# Altium integrated library TI Power Management DC-DC Controller (External Switch).IntLib: 349 symbols (part 20 of 28)
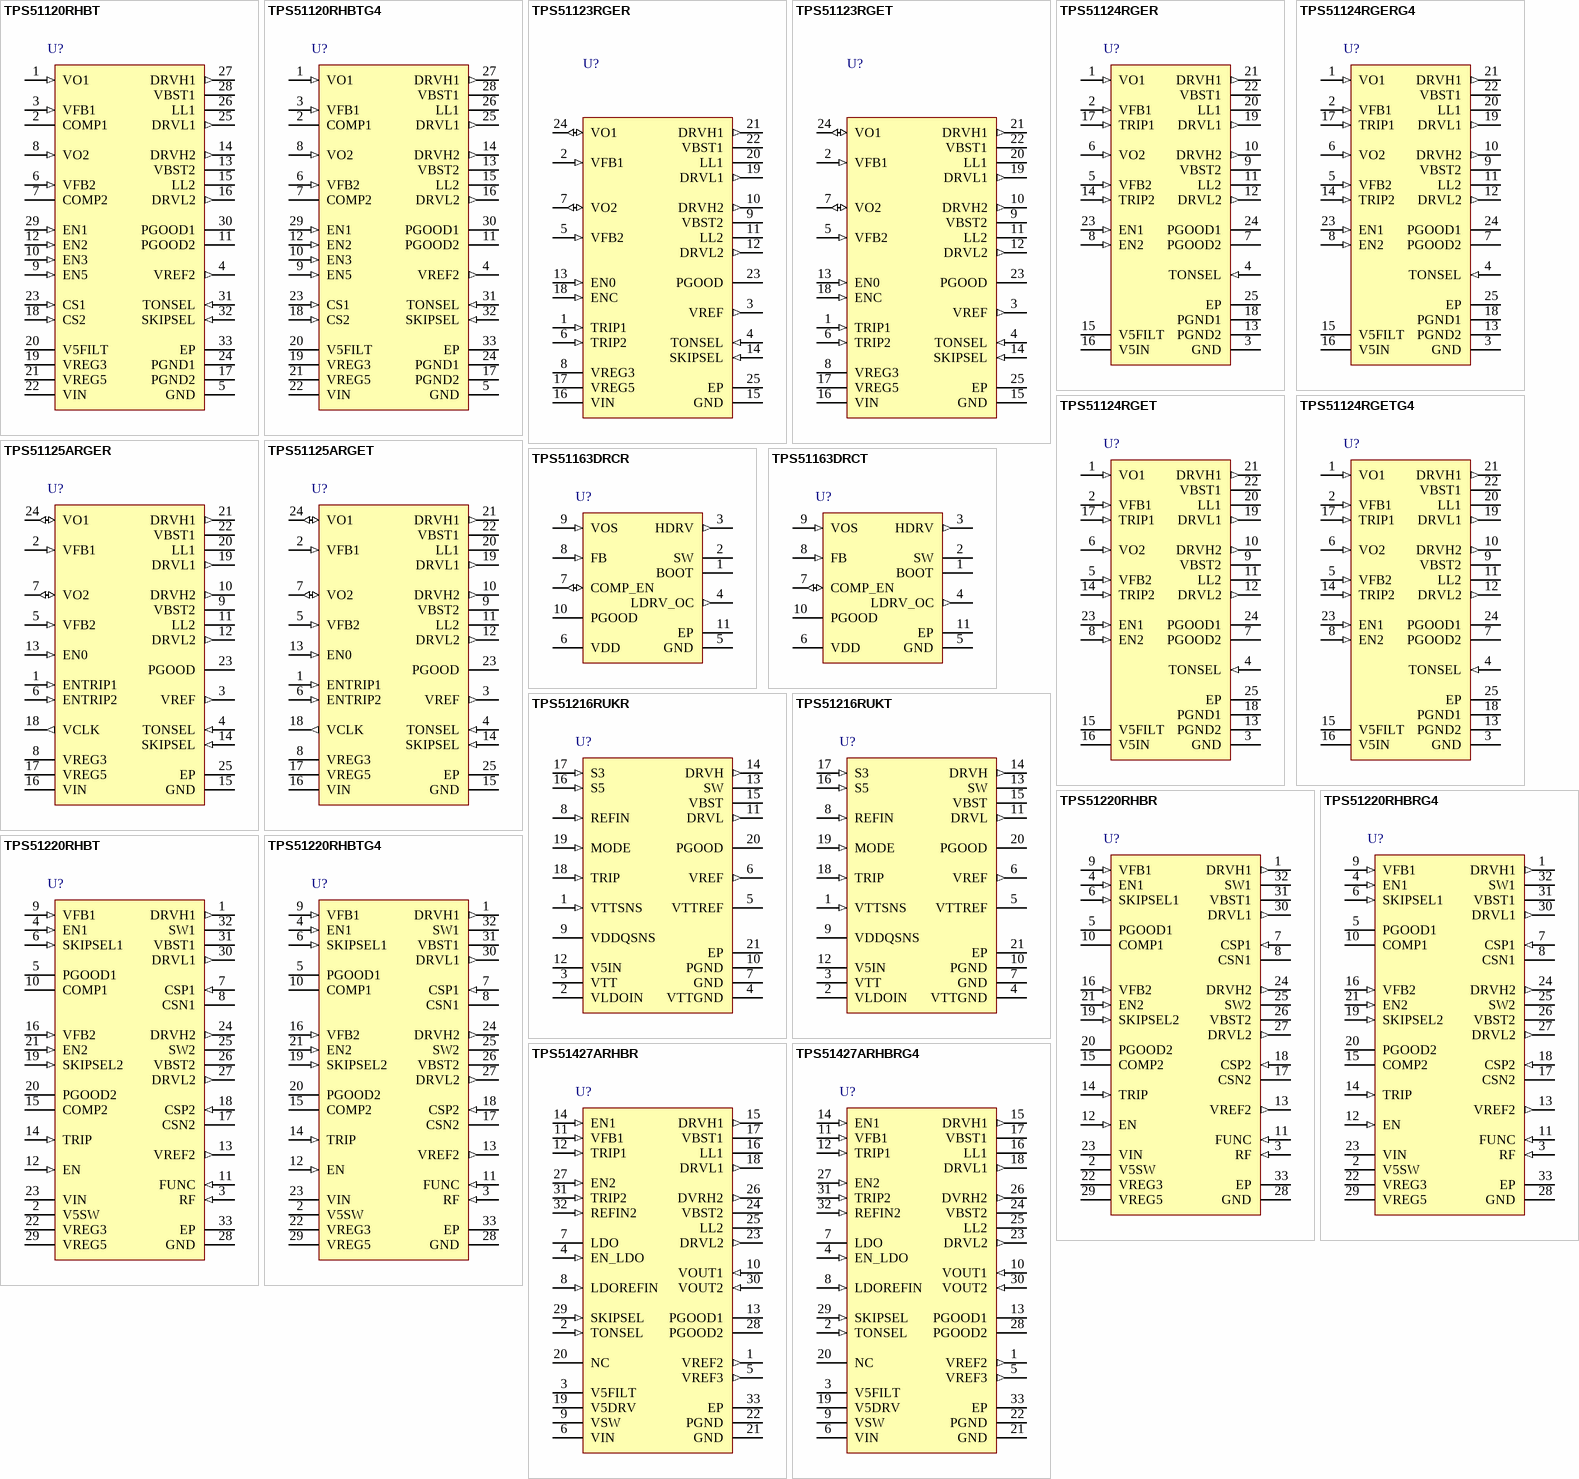
[diagram p33: symbols TPS51120RHBT to TPS51427ARHBRG4]

## TPS51163DRCT
designator U?
4.5 to 13.2 V Synchronous Buck Controller with High Current Gate Driver, 600 kHz, 69 % Duty Cycle, 4.5 to 13.2 V, -40 to 85 degC, 10-pin SON (DRC), Green (RoHS & no Sb/Br); Manufacturer: Texas Instruments; PartNumber: TPS51163DRCT; Duty Cycle(Max)(%): 69; Regulated Outputs(#): 1; SubFamily: Step-Down Controller; Switching Frequency(Max)(kHz): 600; Synchronous Rectification: TRUE; Vin(Max)(V): 13.2; Vin(Min)(V): 4.5; DatasheetVersion: SLUS864; PackageVersion: revL, Sep-2011; PackageReference: DRC10-2400X1650TP; PackageDescription: 10-Pin Plastic Small Outline No-Lead, 3 x 3 x 1 mm Body, 0.5 mm Pitch, Exposed Pad; Supplier 1: Digi-Key; Supplier Part Number 1: 296-24537-2-ND; Supplier 2: Digi-Key; Supplier Part Number 2: 296-24537-1-ND; Supplier 3: Digi-Key; Supplier Part Number 3: 296-24537-6-ND; Supplier 4: Farnell; Supplier Part Number 4: 1735583; Supplier 5: Newark; Supplier Part Number 5: 10R6152; Supplier 6: Mouser; Supplier Part Number 6: 595-TPS51163DRCT; Eco-Plan: Green (RoHS & no Sb/Br); Topology: Buck; Mounting Technology: Surface Mount; ComponentLink1Description: Datasheet; ComponentLink1URL: http://www.ti.com/general/docs/lit/getliterature.tsp?genericPartNumber=TPS51163&fileType=pdf; ComponentLink2Description: Package Specification; ComponentLink2URL: http://www.ti.com/litv/pdf/mpds117k
footprint DRC10-2400X1650TP (SON, 10-Leads, Body 3x3mm, Pitch 0.5mm, Thermal Pad 2.4x1.65mm, TI Recommended)
pins: 1 BOOT (power) "Gate drive voltage for the high-side N-channel MOSFET. Typically, a 100 nF capacitor must be connected between this pin and SW. Also, a diode from VDD to BOOT should be externally provided.", 2 SW (power) "Sense line for the adaptive anti-cross conduction circuitry. Serves as common connection for the flying high-side FET driver.", 3 HDRV (out) "Gate drive output for the high-side N-channel MOSFET.", 4 LDRV_OC (out) "Gate drive output for the low-side or rectifier MOSFET. The set point is read during start up calibration with the 10 uA current source present.", 5 GND (power) "Common reference for the device", 6 VDD (power) "Power input to the controller, 4.5 V to 13.2 V.", 7 COMP_EN (io) "Output of the error amplifier and the shutdown pin. Pulling the voltage on this pin lower than 800 mV shuts the controller down.", 8 FB (in) "Inverting input to the error amplifier. In normal operation, the voltage on this pin is equal to the internal reference voltage of 800mV.", 9 VOS (in) "Input to set undervoltage and overvoltage protections. Undervoltage protection occurs when VOS voltage is lower than 600mV. The controller shuts down with both MOSFETs latched off. Overvoltage protection occurs when VOS (See Datasheet)", 10 PGOOD (oc) "Open drain power good output. An external pull-up resistor is required.", 11 EP (power)

## TPS51216RUKR
designator U?
DDR2, DDR3 and DDR3L Memory Power Solution Synchronous Buck Controller, 2 A LDO, Buffered Reference, 84 % Duty Cycle, 3 to 28 V, -40 to 85 degC, 20-pin WQFN (RUK), Green (RoHS & no Sb/Br); Manufacturer: Texas Instruments; PartNumber: TPS51216RUKR; Duty Cycle(Max)(%): 84; Iout(Max)(A): 20; Regulated Outputs(#): 1; SubFamily: Multiple-Output Switching Controller; Switching Frequency(Max)(kHz): 400; Topology: Buck , D-CAP Mode; Vin(Max)(V): 28; Vin(Min)(V): 3; Vout(Max)(V): 1.8; Vout(Min)(V): 0.7; DatasheetVersion: SLUSAB9; PackageVersion: revC, Jan-2012; PackageReference: RUK20-1700X1700TP; PackageDescription: 20-Pin Plastic Quad Flatpack No-Lead, 3 x 3 mm Body, 0.4 mm Pitch, 1.8 x 1.8 mm Exposed Pad; Supplier 1: Digi-Key; Supplier Part Number 1: TPS51216RUKR-ND; Supplier 2: Mouser; Supplier Part Number 2: 595-TPS51216RUKR; Eco-Plan: Green (RoHS & no Sb/Br); Mounting Technology: Surface Mount; Code_JEDEC: MO-220; ComponentLink1Description: Datasheet; ComponentLink1URL: http://www.ti.com/general/docs/lit/getliterature.tsp?genericPartNumber=TPS51216&fileType=pdf; ComponentLink2Description: Package Specification; ComponentLink2URL: http://www.ti.com/litv/pdf/mpqf220b
footprint RUK20-1700X1700TP (QFN, 20-Leads, Body 3x3mm, Pitch 0.4mm, Thermal Pad 1.8x1.8mm, TI Recommended)
pins: 1 VTTSNS (in) "VTT output voltage feedback.", 2 VLDOIN (power) "Power supply input for VTT LDO. Connect VDDQ in typical application.", 3 VTT (power) "VTT 2-A LDO output. Need to connect 10uF or larger capacitance for stability.", 4 VTTGND (power) "Power ground for VTT LDO.", 5 VTTREF (hiz) "Buffered VTT reference output. Need to connect 0.22uF or larger capacitance for stability.", 6 VREF (out) "1.8-V reference output.", 7 GND (power) "Signal ground.", 8 REFIN (in) "Reference input for VDDQ. Connect to the midpoint of a resistor divider from VREF to GND. Add a capacitor for stable operation.", 9 VDDQSNS "VDDQ output voltage feedback. Reference input for VTTREF. Also serves as power supply for VTTREF.", 10 PGND (power) "Gate driver power ground. RDS(on) current sensing input(+).", 11 DRVL (out) "Low-side MOSFET gate driver output.", 12 V5IN (power) "5-V power supply input for internal circuits and MOSFET gate drivers.", 13 SW (power) "High-side MOSFET gate driver return. RDS(on) current sensing input(-).", 14 DRVH (out) "High-side MOSFET gate driver output.", 15 VBST (power) "High-side MOSFET gate driver bootstrap voltage input. Connect a capacitor from the VBST pin to the SW pin.", 16 S5 (in) "S5 signal input.", 17 S3 (in) "S3 signal input.", 18 TRIP (in) "Connect resistor to GND to set OCL at VTRIP/8. Output 10-uA current at room temperature, TC = 4700 ppm/degreesC.", 19 MODE (in) "Connect resistor to GND to configure switching frequency and discharge mode.", 20 PGOOD (oc) "Powergood signal open drain output. PGOOD goes high when VDDQ output voltage is within the target range.", 21 EP (power) "Connect to GND"

## TPS51216RUKT
designator U?
DDR2, DDR3 and DDR3L Memory Power Solution Synchronous Buck Controller, 2 A LDO, Buffered Reference, 84 % Duty Cycle, 3 to 28 V, -40 to 85 degC, 20-pin WQFN (RUK), Green (RoHS & no Sb/Br); Manufacturer: Texas Instruments; PartNumber: TPS51216RUKT; Duty Cycle(Max)(%): 84; Iout(Max)(A): 20; Regulated Outputs(#): 1; SubFamily: Multiple-Output Switching Controller; Switching Frequency(Max)(kHz): 400; Topology: Buck , D-CAP Mode; Vin(Max)(V): 28; Vin(Min)(V): 3; Vout(Max)(V): 1.8; Vout(Min)(V): 0.7; DatasheetVersion: SLUSAB9; PackageVersion: revC, Jan-2012; PackageReference: RUK20-1700X1700TP; PackageDescription: 20-Pin Plastic Quad Flatpack No-Lead, 3 x 3 mm Body, 0.4 mm Pitch, 1.8 x 1.8 mm Exposed Pad; Supplier 1: Digi-Key; Supplier Part Number 1: 296-28075-2-ND; Supplier 2: Digi-Key; Supplier Part Number 2: 296-28075-1-ND; Supplier 3: Digi-Key; Supplier Part Number 3: 296-28075-6-ND; Supplier 4: Farnell; Supplier Part Number 4: 2211339; Supplier 5: Newark; Supplier Part Number 5: 43W4737; Supplier 6: Newark; Supplier Part Number 6: 44W4445; Supplier 7: Newark; Supplier Part Number 7: 24T4805; Supplier 8: Mouser; Supplier Part Number 8: 595-TPS51216RUKT; Eco-Plan: Green (RoHS & no Sb/Br); Mounting Technology: Surface Mount; Code_JEDEC: MO-220; ComponentLink1Description: Datasheet; ComponentLink1URL: http://www.ti.com/general/docs/lit/getliterature.tsp?genericPartNumber=TPS51216&fileType=pdf; ComponentLink2Description: Package Specification; ComponentLink2URL: http://www.ti.com/litv/pdf/mpqf220b
footprint RUK20-1700X1700TP (QFN, 20-Leads, Body 3x3mm, Pitch 0.4mm, Thermal Pad 1.8x1.8mm, TI Recommended)
pins: 1 VTTSNS (in) "VTT output voltage feedback.", 2 VLDOIN (power) "Power supply input for VTT LDO. Connect VDDQ in typical application.", 3 VTT (power) "VTT 2-A LDO output. Need to connect 10uF or larger capacitance for stability.", 4 VTTGND (power) "Power ground for VTT LDO.", 5 VTTREF (hiz) "Buffered VTT reference output. Need to connect 0.22uF or larger capacitance for stability.", 6 VREF (out) "1.8-V reference output.", 7 GND (power) "Signal ground.", 8 REFIN (in) "Reference input for VDDQ. Connect to the midpoint of a resistor divider from VREF to GND. Add a capacitor for stable operation.", 9 VDDQSNS "VDDQ output voltage feedback. Reference input for VTTREF. Also serves as power supply for VTTREF.", 10 PGND (power) "Gate driver power ground. RDS(on) current sensing input(+).", 11 DRVL (out) "Low-side MOSFET gate driver output.", 12 V5IN (power) "5-V power supply input for internal circuits and MOSFET gate drivers.", 13 SW (power) "High-side MOSFET gate driver return. RDS(on) current sensing input(-).", 14 DRVH (out) "High-side MOSFET gate driver output.", 15 VBST (power) "High-side MOSFET gate driver bootstrap voltage input. Connect a capacitor from the VBST pin to the SW pin.", 16 S5 (in) "S5 signal input.", 17 S3 (in) "S3 signal input.", 18 TRIP (in) "Connect resistor to GND to set OCL at VTRIP/8. Output 10-uA current at room temperature, TC = 4700 ppm/degreesC.", 19 MODE (in) "Connect resistor to GND to configure switching frequency and discharge mode.", 20 PGOOD (oc) "Powergood signal open drain output. PGOOD goes high when VDDQ output voltage is within the target range.", 21 EP (power) "Connect to GND"

## TPS51220RHBR
designator U?
Fixed Frequency, 99 % Duty Cycle Peak Current Mode Notebook System Power Controller, 4.5 to 28 V, -40 to 85 degC, 32-pin QFN (RHB), Green (RoHS & no Sb/Br); Manufacturer: Texas Instruments; PartNumber: TPS51220RHBR; Duty Cycle(Max)(%): 99; Iout(Max)(A): 20; Regulated Outputs(#): 2; SubFamily: Multiple-Output Switching Controller; Switching Frequency(Max)(kHz): 1000; Synchronous Rectification: TRUE; Topology: Buck, D-CAP Mode"; Vin(Max)(V): 28; Vin(Min)(V): 4.5; Vout(Max)(V): 12; Vout(Min)(V): 1; DatasheetVersion: SLVS785C; PackageVersion: revD, Jun-2011; PackageReference: RHB32-3450X3450TP; PackageDescription: 32-Pin Plastic Quad Flat No-Lead, 5 x 5 mm Body, 0.5 mm Pitch, 3.45 x 3.45 mm Exposed Pad; Supplier 1: Digi-Key; Supplier Part Number 1: 296-22940-2-ND; Supplier 2: Digi-Key; Supplier Part Number 2: 296-22940-1-ND; Supplier 3: Digi-Key; Supplier Part Number 3: 296-22940-6-ND; Supplier 4: Newark; Supplier Part Number 4: 65M6330; Supplier 5: Mouser; Supplier Part Number 5: 595-TPS51220RHBR; Eco-Plan: Green (RoHS & no Sb/Br); Iout2(A): 20; Vout2(Max)(V): 12; Vout2(Min)(V): 1; Mounting Technology: Surface Mount; Code_JEDEC: MO-220; ComponentLink1Description: Datasheet; ComponentLink1URL: http://www.ti.com/general/docs/lit/getliterature.tsp?genericPartNumber=TPS51220&fileType=pdf; ComponentLink2Description: Package Specification; ComponentLink2URL: http://www.ti.com/litv/pdf/mpqf130c
footprint RHB32-3450X3450TP (QFN, 32-Leads, Body 5x5mm, Pitch 0.5mm, Thermal Pad 3.45x3.45mm, TI Recommended)
pins: 1 DRVH1 (out) "High-side MOSFET gate driver outputs. Source 1.7ohm, sink 1.0ohm, SW-node referenced floating driver. Drive voltage corresponds to VBST to SW voltage", 2 V5SW (power) "VREG5 switchover power supply input pin. When EN1 is high, PGOOD1 indicates GOOD and V5SW voltage is higher than 4.8 V, switch-over function will be enabled. (Note) When switch-over is enabled,  VREG5 output voltage will be (See Datasheet)", 3 RF (in) "Frequency setting pin. Connect a frequency setting resistor to (signal) GND. Connect to an external clock for synchronization.", 4 EN1 (in) "Channel 1 and channel 2 SMPS enable Pins. When turning on, apply greater than 0.55 V and less than 6 V or be floating. Connect to GND to disable. Adjustable soft-start capacitance to be attached here.", 5 PGOOD1 (oc) "Power Good window comparator outputs for channel 1 and channel 2. The applied voltage should be less than 6 V, and the recommended pull-up resistance value is from 100 k ohm to 1 Mohm.", 6 SKIPSEL1 (in) "Skip mode selection pin.   GND: Continuous conduction mode VREF2: Auto skip  VREG3: OOA auto skip, maximum 7 skips (suitable for fsw < 400 kHz)  VREG5: OOA auto skip, maximum 15 skips (suitable for equal to or greater than (See Datasheet)", 7 CSP1 (in) "Current sense comparator inputs (+). An RC network with high quality X5R or X7R ceramic capacitor should be used to extract voltage drop across DCR. 0.1 μF is a good value to start the design. See the current sensing scheme (See Datasheet)", 8 CSN1 "Current sense comparator inputs (-). See the current sensing scheme section. Used as power supply for the current sense circuit for 5 V or higher output voltage setting. Also, used for output discharge terminal.", 9 VFB1 (in) "SMPS voltage feedback inputs. Connect the feedback resistors divider, and should be referred to (signal) GND.", 10 COMP1 "Loop compensation pin for current mode (error amplifier output). Connect R (and C if required) from this pin to VREF2 for proper loop compensation with current mode operation. Ramp compensation adjustable pin for D-CAP mode, (See Datasheet)", 11 FUNC (in) "Control architecture and OVP function selection pin. GND: Current mode, OVP enable  VREF2: D-CAP mode, OVP disable  VREG3: D-CAP mode, OVP enable  VREG5: Current mode, OVP disable", 12 EN (in) "VREF2 and VREG5 Linear Regulators Enable Pin. When turning on, apply greater than 1.2V and less than 6V. Connect to GND to Disable.", 13 VREF2 (out) "2-V Reference Output. Bypass to (signal) GND by 0.22μF ceramic capacitor.", 14 TRIP (in) "Control architecture and OVP function selection pin. GND: Current mode, OVP enable  VREF2: V(OCL-ULV), Discharge off  VREG3: V(OCL-LV), Discharge off   VREG5: V(OCL-LV), Discharge on", 15 COMP2 "Loop compensation pin for current mode (error amplifier output). Connect R (and C if required) from this pin to VREF2 for proper loop compensation with current mode operation. Ramp compensation adjustable pin for D-CAP mode, (See Datasheet)", 16 VFB2 (in) "SMPS voltage feedback inputs. Connect the feedback resistors divider, and should be referred to (signal) GND.", 17 CSN2 "Current sense comparator inputs (-). See the current sensing scheme section. Used as power supply for the current sense circuit for 5 V or higher output voltage setting. Also, used for output discharge terminal.", 18 CSP2 (in) "Current sense comparator inputs (+). An RC network with high quality X5R or X7R ceramic capacitor should be used to extract voltage drop across DCR. 0.1 μF is a good value to start the design. See the current sensing scheme (See Datasheet)", 19 SKIPSEL2 (in) "Skip mode selection pin.   GND: Continuous conduction mode VREF2: Auto skip  VREG3: OOA auto skip, maximum 7 skips (suitable for fsw < 400 kHz)  VREG5: OOA auto skip, maximum 15 skips (suitable for equal to or greater than (See Datasheet)", 20 PGOOD2 (oc) "Power Good window comparator outputs for channel 1 and channel 2. The applied voltage should be less than 6 V, and the recommended pull-up resistance value is from 100 k ohm to 1 Mohm.", 21 EN2 (in) "Channel 1 and channel 2 SMPS enable Pins. When turning on, apply greater than 0.55 V and less than 6 V or be floating. Connect to GND to disable. Adjustable soft-start capacitance to be attached here.", 22 VREG3 (power) "Always alive 3.3-V, 10-mA low dropout linear regulator output. Bypass to (signal) GND with more than 1-μF ceramic capacitor. Runs from VIN supply or from VREG5 when it is switched over to V5SW input.", 23 VIN (power) "Supply input for 5-V and 3.3-V linear regulator. Typically connected to VBAT.", 24 DRVH2 (out) "High-side MOSFET gate driver outputs. Source 1.7ohm, sink 1.0ohm, SW-node referenced floating driver. Drive voltage corresponds to VBST to SW voltage", 25 SW2 (power) "High-side MOSFET gate driver returns.", 26 VBST2 (power) "Supply inputs for high-side NFET driver (boot strap Terminal). Connect a capacitor (0.1μF or greater is recommended) from this pin to respective SW terminal. Additional SB diode from VREG5 to this pin is an optional.", 27 DRVL2 (out) "Low-side MOSFET gate driver outputs. Source 1.3 ohm, sink 0.7 ohm, GND referenced driver.", 28 GND (power) "Ground.", 29 VREG5 (power) "5-V, 100-mA low-dropout linear regulator output. Bypass to (power) GND using a 10-μF ceramic capacitor Runs from VIN supply. Internally connected to VBST and DRVL. Shuts off with EN. Switches over to V5SW when 4.8 V or above (See Datasheet)", 30 DRVL1 (out) "Low-side MOSFET gate driver outputs. Source 1.3 ohm, sink 0.7 ohm, GND referenced driver", 31 VBST1 (power) "Supply inputs for high-side NFET driver (boot strap Terminal). Connect a capacitor (0.1μF or greater is recommended) from this pin to respective SW terminal. Additional SB diode from VREG5 to this pin is an optional.", 32 SW1 (power) "High-side MOSFET gate driver returns.", 33 EP (power) "Connect to the ground."

## TPS51220RHBRG4
designator U?
Fixed Frequency, 99% Duty Cycle Peak Current Mode Notebook System Power Controller, 4.5 to 28 V, -40 to 85 degC, 32-pin QFN (RHB), Green (RoHS & no Sb/Br); Manufacturer: Texas Instruments; PartNumber: TPS51220RHBRG4; Duty Cycle(Max)(%): 99; Iout(Max)(A): 20; Regulated Outputs(#): 2; SubFamily: Multiple-Output Switching Controller; Switching Frequency(Max)(kHz): 1000; Synchronous Rectification: TRUE; Topology: Buck, D-CAP Mode"; Vin(Max)(V): 28; Vin(Min)(V): 4.5; Vout(Max)(V): 12; Vout(Min)(V): 1; DatasheetVersion: SLVS785C; PackageVersion: revD, Jun-2011; PackageReference: RHB32-3450X3450TP; PackageDescription: 32-Pin Plastic Quad Flat No-Lead, 5 x 5 mm Body, 0.5 mm Pitch, 3.45 x 3.45 mm Exposed Pad; Supplier 1: Digi-Key; Supplier Part Number 1: TPS51220RHBRG4-ND; Supplier 2: Newark; Supplier Part Number 2: 95M0050; Supplier 3: Mouser; Supplier Part Number 3: 595-TPS51220RHBRG4; Eco-Plan: Green (RoHS & no Sb/Br); Iout2(A): 20; Vout2(Max)(V): 12; Vout2(Min)(V): 1; Mounting Technology: Surface Mount; Code_JEDEC: MO-220; ComponentLink1Description: Datasheet; ComponentLink1URL: http://www.ti.com/general/docs/lit/getliterature.tsp?genericPartNumber=TPS51220&fileType=pdf; ComponentLink2Description: Package Specification; ComponentLink2URL: http://www.ti.com/litv/pdf/mpqf130c
footprint RHB32-3450X3450TP (QFN, 32-Leads, Body 5x5mm, Pitch 0.5mm, Thermal Pad 3.45x3.45mm, TI Recommended)
pins: 1 DRVH1 (out) "High-side MOSFET gate driver outputs. Source 1.7ohm, sink 1.0ohm, SW-node referenced floating driver. Drive voltage corresponds to VBST to SW voltage", 2 V5SW (power) "VREG5 switchover power supply input pin. When EN1 is high, PGOOD1 indicates GOOD and V5SW voltage is higher than 4.8 V, switch-over function will be enabled. (Note) When switch-over is enabled,  VREG5 output voltage will be (See Datasheet)", 3 RF (in) "Frequency setting pin. Connect a frequency setting resistor to (signal) GND. Connect to an external clock for synchronization.", 4 EN1 (in) "Channel 1 and channel 2 SMPS enable Pins. When turning on, apply greater than 0.55 V and less than 6 V or be floating. Connect to GND to disable. Adjustable soft-start capacitance to be attached here.", 5 PGOOD1 (oc) "Power Good window comparator outputs for channel 1 and channel 2. The applied voltage should be less than 6 V, and the recommended pull-up resistance value is from 100 k ohm to 1 Mohm.", 6 SKIPSEL1 (in) "Skip mode selection pin.   GND: Continuous conduction mode VREF2: Auto skip  VREG3: OOA auto skip, maximum 7 skips (suitable for fsw < 400 kHz)  VREG5: OOA auto skip, maximum 15 skips (suitable for equal to or greater than (See Datasheet)", 7 CSP1 (in) "Current sense comparator inputs (+). An RC network with high quality X5R or X7R ceramic capacitor should be used to extract voltage drop across DCR. 0.1 μF is a good value to start the design. See the current sensing scheme (See Datasheet)", 8 CSN1 "Current sense comparator inputs (-). See the current sensing scheme section. Used as power supply for the current sense circuit for 5 V or higher output voltage setting. Also, used for output discharge terminal.", 9 VFB1 (in) "SMPS voltage feedback inputs. Connect the feedback resistors divider, and should be referred to (signal) GND.", 10 COMP1 "Loop compensation pin for current mode (error amplifier output). Connect R (and C if required) from this pin to VREF2 for proper loop compensation with current mode operation. Ramp compensation adjustable pin for D-CAP mode, (See Datasheet)", 11 FUNC (in) "Control architecture and OVP function selection pin. GND: Current mode, OVP enable  VREF2: D-CAP mode, OVP disable  VREG3: D-CAP mode, OVP enable  VREG5: Current mode, OVP disable", 12 EN (in) "VREF2 and VREG5 Linear Regulators Enable Pin. When turning on, apply greater than 1.2V and less than 6V. Connect to GND to Disable.", 13 VREF2 (out) "2-V Reference Output. Bypass to (signal) GND by 0.22μF ceramic capacitor.", 14 TRIP (in) "Control architecture and OVP function selection pin. GND: Current mode, OVP enable  VREF2: V(OCL-ULV), Discharge off  VREG3: V(OCL-LV), Discharge off   VREG5: V(OCL-LV), Discharge on", 15 COMP2 "Loop compensation pin for current mode (error amplifier output). Connect R (and C if required) from this pin to VREF2 for proper loop compensation with current mode operation. Ramp compensation adjustable pin for D-CAP mode, (See Datasheet)", 16 VFB2 (in) "SMPS voltage feedback inputs. Connect the feedback resistors divider, and should be referred to (signal) GND.", 17 CSN2 "Current sense comparator inputs (-). See the current sensing scheme section. Used as power supply for the current sense circuit for 5 V or higher output voltage setting. Also, used for output discharge terminal.", 18 CSP2 (in) "Current sense comparator inputs (+). An RC network with high quality X5R or X7R ceramic capacitor should be used to extract voltage drop across DCR. 0.1 μF is a good value to start the design. See the current sensing scheme (See Datasheet)", 19 SKIPSEL2 (in) "Skip mode selection pin.   GND: Continuous conduction mode VREF2: Auto skip  VREG3: OOA auto skip, maximum 7 skips (suitable for fsw < 400 kHz)  VREG5: OOA auto skip, maximum 15 skips (suitable for equal to or greater than (See Datasheet)", 20 PGOOD2 (oc) "Power Good window comparator outputs for channel 1 and channel 2. The applied voltage should be less than 6 V, and the recommended pull-up resistance value is from 100 k ohm to 1 Mohm.", 21 EN2 (in) "Channel 1 and channel 2 SMPS enable Pins. When turning on, apply greater than 0.55 V and less than 6 V or be floating. Connect to GND to disable. Adjustable soft-start capacitance to be attached here.", 22 VREG3 (power) "Always alive 3.3-V, 10-mA low dropout linear regulator output. Bypass to (signal) GND with more than 1-μF ceramic capacitor. Runs from VIN supply or from VREG5 when it is switched over to V5SW input.", 23 VIN (power) "Supply input for 5-V and 3.3-V linear regulator. Typically connected to VBAT.", 24 DRVH2 (out) "High-side MOSFET gate driver outputs. Source 1.7ohm, sink 1.0ohm, SW-node referenced floating driver. Drive voltage corresponds to VBST to SW voltage", 25 SW2 (power) "High-side MOSFET gate driver returns.", 26 VBST2 (power) "Supply inputs for high-side NFET driver (boot strap Terminal). Connect a capacitor (0.1μF or greater is recommended) from this pin to respective SW terminal. Additional SB diode from VREG5 to this pin is an optional.", 27 DRVL2 (out) "Low-side MOSFET gate driver outputs. Source 1.3 ohm, sink 0.7 ohm, GND referenced driver.", 28 GND (power) "Ground.", 29 VREG5 (power) "5-V, 100-mA low-dropout linear regulator output. Bypass to (power) GND using a 10-μF ceramic capacitor Runs from VIN supply. Internally connected to VBST and DRVL. Shuts off with EN. Switches over to V5SW when 4.8 V or above (See Datasheet)", 30 DRVL1 (out) "Low-side MOSFET gate driver outputs. Source 1.3 ohm, sink 0.7 ohm, GND referenced driver", 31 VBST1 (power) "Supply inputs for high-side NFET driver (boot strap Terminal). Connect a capacitor (0.1μF or greater is recommended) from this pin to respective SW terminal. Additional SB diode from VREG5 to this pin is an optional.", 32 SW1 (power) "High-side MOSFET gate driver returns.", 33 EP (power) "Connect to the ground."

## TPS51220RHBT
designator U?
Fixed Frequency, 99% Duty Cycle Peak Current Mode Notebook System Power Controller, 4.5 to 28 V, -40 to 85 degC, 32-pin QFN (RHB), Green (RoHS & no Sb/Br); Manufacturer: Texas Instruments; PartNumber: TPS51220RHBT; Duty Cycle(Max)(%): 99; Iout(Max)(A): 20; Regulated Outputs(#): 2; SubFamily: Multiple-Output Switching Controller; Switching Frequency(Max)(kHz): 1000; Synchronous Rectification: TRUE; Topology: Buck, D-CAP Mode"; Vin(Max)(V): 28; Vin(Min)(V): 4.5; Vout(Max)(V): 12; Vout(Min)(V): 1; DatasheetVersion: SLVS785C; PackageVersion: revD, Jun-2011; PackageReference: RHB32-3450X3450TP; PackageDescription: 32-Pin Plastic Quad Flat No-Lead, 5 x 5 mm Body, 0.5 mm Pitch, 3.45 x 3.45 mm Exposed Pad; Supplier 1: Digi-Key; Supplier Part Number 1: TPS51220RHBT-ND; Supplier 2: Newark; Supplier Part Number 2: 65M6331; Supplier 3: Mouser; Supplier Part Number 3: 595-TPS51220RHBT; Eco-Plan: Green (RoHS & no Sb/Br); Iout2(A): 20; Vout2(Max)(V): 12; Vout2(Min)(V): 1; Mounting Technology: Surface Mount; Code_JEDEC: MO-220; ComponentLink1Description: Datasheet; ComponentLink1URL: http://www.ti.com/general/docs/lit/getliterature.tsp?genericPartNumber=TPS51220&fileType=pdf; ComponentLink2Description: Package Specification; ComponentLink2URL: http://www.ti.com/litv/pdf/mpqf130c
footprint RHB32-3450X3450TP (QFN, 32-Leads, Body 5x5mm, Pitch 0.5mm, Thermal Pad 3.45x3.45mm, TI Recommended)
pins: 1 DRVH1 (out) "High-side MOSFET gate driver outputs. Source 1.7ohm, sink 1.0ohm, SW-node referenced floating driver. Drive voltage corresponds to VBST to SW voltage", 2 V5SW (power) "VREG5 switchover power supply input pin. When EN1 is high, PGOOD1 indicates GOOD and V5SW voltage is higher than 4.8 V, switch-over function will be enabled. (Note) When switch-over is enabled,  VREG5 output voltage will be (See Datasheet)", 3 RF (in) "Frequency setting pin. Connect a frequency setting resistor to (signal) GND. Connect to an external clock for synchronization.", 4 EN1 (in) "Channel 1 and channel 2 SMPS enable Pins. When turning on, apply greater than 0.55 V and less than 6 V or be floating. Connect to GND to disable. Adjustable soft-start capacitance to be attached here.", 5 PGOOD1 (oc) "Power Good window comparator outputs for channel 1 and channel 2. The applied voltage should be less than 6 V, and the recommended pull-up resistance value is from 100 k ohm to 1 Mohm.", 6 SKIPSEL1 (in) "Skip mode selection pin.   GND: Continuous conduction mode VREF2: Auto skip  VREG3: OOA auto skip, maximum 7 skips (suitable for fsw < 400 kHz)  VREG5: OOA auto skip, maximum 15 skips (suitable for equal to or greater than (See Datasheet)", 7 CSP1 (in) "Current sense comparator inputs (+). An RC network with high quality X5R or X7R ceramic capacitor should be used to extract voltage drop across DCR. 0.1 μF is a good value to start the design. See the current sensing scheme (See Datasheet)", 8 CSN1 "Current sense comparator inputs (-). See the current sensing scheme section. Used as power supply for the current sense circuit for 5 V or higher output voltage setting. Also, used for output discharge terminal.", 9 VFB1 (in) "SMPS voltage feedback inputs. Connect the feedback resistors divider, and should be referred to (signal) GND.", 10 COMP1 "Loop compensation pin for current mode (error amplifier output). Connect R (and C if required) from this pin to VREF2 for proper loop compensation with current mode operation. Ramp compensation adjustable pin for D-CAP mode, (See Datasheet)", 11 FUNC (in) "Control architecture and OVP function selection pin. GND: Current mode, OVP enable  VREF2: D-CAP mode, OVP disable  VREG3: D-CAP mode, OVP enable  VREG5: Current mode, OVP disable", 12 EN (in) "VREF2 and VREG5 Linear Regulators Enable Pin. When turning on, apply greater than 1.2V and less than 6V. Connect to GND to Disable.", 13 VREF2 (out) "2-V Reference Output. Bypass to (signal) GND by 0.22μF ceramic capacitor.", 14 TRIP (in) "Control architecture and OVP function selection pin. GND: Current mode, OVP enable  VREF2: V(OCL-ULV), Discharge off  VREG3: V(OCL-LV), Discharge off   VREG5: V(OCL-LV), Discharge on", 15 COMP2 "Loop compensation pin for current mode (error amplifier output). Connect R (and C if required) from this pin to VREF2 for proper loop compensation with current mode operation. Ramp compensation adjustable pin for D-CAP mode, (See Datasheet)", 16 VFB2 (in) "SMPS voltage feedback inputs. Connect the feedback resistors divider, and should be referred to (signal) GND.", 17 CSN2 "Current sense comparator inputs (-). See the current sensing scheme section. Used as power supply for the current sense circuit for 5 V or higher output voltage setting. Also, used for output discharge terminal.", 18 CSP2 (in) "Current sense comparator inputs (+). An RC network with high quality X5R or X7R ceramic capacitor should be used to extract voltage drop across DCR. 0.1 μF is a good value to start the design. See the current sensing scheme (See Datasheet)", 19 SKIPSEL2 (in) "Skip mode selection pin.   GND: Continuous conduction mode VREF2: Auto skip  VREG3: OOA auto skip, maximum 7 skips (suitable for fsw < 400 kHz)  VREG5: OOA auto skip, maximum 15 skips (suitable for equal to or greater than (See Datasheet)", 20 PGOOD2 (oc) "Power Good window comparator outputs for channel 1 and channel 2. The applied voltage should be less than 6 V, and the recommended pull-up resistance value is from 100 k ohm to 1 Mohm.", 21 EN2 (in) "Channel 1 and channel 2 SMPS enable Pins. When turning on, apply greater than 0.55 V and less than 6 V or be floating. Connect to GND to disable. Adjustable soft-start capacitance to be attached here.", 22 VREG3 (power) "Always alive 3.3-V, 10-mA low dropout linear regulator output. Bypass to (signal) GND with more than 1-μF ceramic capacitor. Runs from VIN supply or from VREG5 when it is switched over to V5SW input.", 23 VIN (power) "Supply input for 5-V and 3.3-V linear regulator. Typically connected to VBAT.", 24 DRVH2 (out) "High-side MOSFET gate driver outputs. Source 1.7ohm, sink 1.0ohm, SW-node referenced floating driver. Drive voltage corresponds to VBST to SW voltage", 25 SW2 (power) "High-side MOSFET gate driver returns.", 26 VBST2 (power) "Supply inputs for high-side NFET driver (boot strap Terminal). Connect a capacitor (0.1μF or greater is recommended) from this pin to respective SW terminal. Additional SB diode from VREG5 to this pin is an optional.", 27 DRVL2 (out) "Low-side MOSFET gate driver outputs. Source 1.3 ohm, sink 0.7 ohm, GND referenced driver.", 28 GND (power) "Ground.", 29 VREG5 (power) "5-V, 100-mA low-dropout linear regulator output. Bypass to (power) GND using a 10-μF ceramic capacitor Runs from VIN supply. Internally connected to VBST and DRVL. Shuts off with EN. Switches over to V5SW when 4.8 V or above (See Datasheet)", 30 DRVL1 (out) "Low-side MOSFET gate driver outputs. Source 1.3 ohm, sink 0.7 ohm, GND referenced driver", 31 VBST1 (power) "Supply inputs for high-side NFET driver (boot strap Terminal). Connect a capacitor (0.1μF or greater is recommended) from this pin to respective SW terminal. Additional SB diode from VREG5 to this pin is an optional.", 32 SW1 (power) "High-side MOSFET gate driver returns.", 33 EP (power) "Connect to the ground."

## TPS51220RHBTG4
designator U?
Fixed Frequency, 99% Duty Cycle Peak Current Mode Notebook System Power Controller, 4.5 to 28 V, -40 to 85 degC, 32-pin QFN (RHB), Green (RoHS & no Sb/Br); Manufacturer: Texas Instruments; PartNumber: TPS51220RHBTG4; Duty Cycle(Max)(%): 99; Iout(Max)(A): 20; Regulated Outputs(#): 2; SubFamily: Multiple-Output Switching Controller; Switching Frequency(Max)(kHz): 1000; Synchronous Rectification: TRUE; Topology: Buck, D-CAP Mode"; Vin(Max)(V): 28; Vin(Min)(V): 4.5; Vout(Max)(V): 12; Vout(Min)(V): 1; DatasheetVersion: SLVS785C; PackageVersion: revD, Jun-2011; PackageReference: RHB32-3450X3450TP; PackageDescription: 32-Pin Plastic Quad Flat No-Lead, 5 x 5 mm Body, 0.5 mm Pitch, 3.45 x 3.45 mm Exposed Pad; Supplier 1: Digi-Key; Supplier Part Number 1: TPS51220RHBTG4-ND; Supplier 2: Mouser; Supplier Part Number 2: 595-TPS51220RHBTG4; Eco-Plan: Green (RoHS & no Sb/Br); Iout2(A): 20; Vout2(Max)(V): 12; Vout2(Min)(V): 1; Mounting Technology: Surface Mount; Code_JEDEC: MO-220; ComponentLink1Description: Datasheet; ComponentLink1URL: http://www.ti.com/general/docs/lit/getliterature.tsp?genericPartNumber=TPS51220&fileType=pdf; ComponentLink2Description: Package Specification; ComponentLink2URL: http://www.ti.com/litv/pdf/mpqf130c
footprint RHB32-3450X3450TP (QFN, 32-Leads, Body 5x5mm, Pitch 0.5mm, Thermal Pad 3.45x3.45mm, TI Recommended)
pins: 1 DRVH1 (out) "High-side MOSFET gate driver outputs. Source 1.7ohm, sink 1.0ohm, SW-node referenced floating driver. Drive voltage corresponds to VBST to SW voltage", 2 V5SW (power) "VREG5 switchover power supply input pin. When EN1 is high, PGOOD1 indicates GOOD and V5SW voltage is higher than 4.8 V, switch-over function will be enabled. (Note) When switch-over is enabled,  VREG5 output voltage will be (See Datasheet)", 3 RF (in) "Frequency setting pin. Connect a frequency setting resistor to (signal) GND. Connect to an external clock for synchronization.", 4 EN1 (in) "Channel 1 and channel 2 SMPS enable Pins. When turning on, apply greater than 0.55 V and less than 6 V or be floating. Connect to GND to disable. Adjustable soft-start capacitance to be attached here.", 5 PGOOD1 (oc) "Power Good window comparator outputs for channel 1 and channel 2. The applied voltage should be less than 6 V, and the recommended pull-up resistance value is from 100 k ohm to 1 Mohm.", 6 SKIPSEL1 (in) "Skip mode selection pin.   GND: Continuous conduction mode VREF2: Auto skip  VREG3: OOA auto skip, maximum 7 skips (suitable for fsw < 400 kHz)  VREG5: OOA auto skip, maximum 15 skips (suitable for equal to or greater than (See Datasheet)", 7 CSP1 (in) "Current sense comparator inputs (+). An RC network with high quality X5R or X7R ceramic capacitor should be used to extract voltage drop across DCR. 0.1 μF is a good value to start the design. See the current sensing scheme (See Datasheet)", 8 CSN1 "Current sense comparator inputs (-). See the current sensing scheme section. Used as power supply for the current sense circuit for 5 V or higher output voltage setting. Also, used for output discharge terminal.", 9 VFB1 (in) "SMPS voltage feedback inputs. Connect the feedback resistors divider, and should be referred to (signal) GND.", 10 COMP1 "Loop compensation pin for current mode (error amplifier output). Connect R (and C if required) from this pin to VREF2 for proper loop compensation with current mode operation. Ramp compensation adjustable pin for D-CAP mode, (See Datasheet)", 11 FUNC (in) "Control architecture and OVP function selection pin. GND: Current mode, OVP enable  VREF2: D-CAP mode, OVP disable  VREG3: D-CAP mode, OVP enable  VREG5: Current mode, OVP disable", 12 EN (in) "VREF2 and VREG5 Linear Regulators Enable Pin. When turning on, apply greater than 1.2V and less than 6V. Connect to GND to Disable.", 13 VREF2 (out) "2-V Reference Output. Bypass to (signal) GND by 0.22μF ceramic capacitor.", 14 TRIP (in) "Control architecture and OVP function selection pin. GND: Current mode, OVP enable  VREF2: V(OCL-ULV), Discharge off  VREG3: V(OCL-LV), Discharge off   VREG5: V(OCL-LV), Discharge on", 15 COMP2 "Loop compensation pin for current mode (error amplifier output). Connect R (and C if required) from this pin to VREF2 for proper loop compensation with current mode operation. Ramp compensation adjustable pin for D-CAP mode, (See Datasheet)", 16 VFB2 (in) "SMPS voltage feedback inputs. Connect the feedback resistors divider, and should be referred to (signal) GND.", 17 CSN2 "Current sense comparator inputs (-). See the current sensing scheme section. Used as power supply for the current sense circuit for 5 V or higher output voltage setting. Also, used for output discharge terminal.", 18 CSP2 (in) "Current sense comparator inputs (+). An RC network with high quality X5R or X7R ceramic capacitor should be used to extract voltage drop across DCR. 0.1 μF is a good value to start the design. See the current sensing scheme (See Datasheet)", 19 SKIPSEL2 (in) "Skip mode selection pin.   GND: Continuous conduction mode VREF2: Auto skip  VREG3: OOA auto skip, maximum 7 skips (suitable for fsw < 400 kHz)  VREG5: OOA auto skip, maximum 15 skips (suitable for equal to or greater than (See Datasheet)", 20 PGOOD2 (oc) "Power Good window comparator outputs for channel 1 and channel 2. The applied voltage should be less than 6 V, and the recommended pull-up resistance value is from 100 k ohm to 1 Mohm.", 21 EN2 (in) "Channel 1 and channel 2 SMPS enable Pins. When turning on, apply greater than 0.55 V and less than 6 V or be floating. Connect to GND to disable. Adjustable soft-start capacitance to be attached here.", 22 VREG3 (power) "Always alive 3.3-V, 10-mA low dropout linear regulator output. Bypass to (signal) GND with more than 1-μF ceramic capacitor. Runs from VIN supply or from VREG5 when it is switched over to V5SW input.", 23 VIN (power) "Supply input for 5-V and 3.3-V linear regulator. Typically connected to VBAT.", 24 DRVH2 (out) "High-side MOSFET gate driver outputs. Source 1.7ohm, sink 1.0ohm, SW-node referenced floating driver. Drive voltage corresponds to VBST to SW voltage", 25 SW2 (power) "High-side MOSFET gate driver returns.", 26 VBST2 (power) "Supply inputs for high-side NFET driver (boot strap Terminal). Connect a capacitor (0.1μF or greater is recommended) from this pin to respective SW terminal. Additional SB diode from VREG5 to this pin is an optional.", 27 DRVL2 (out) "Low-side MOSFET gate driver outputs. Source 1.3 ohm, sink 0.7 ohm, GND referenced driver.", 28 GND (power) "Ground.", 29 VREG5 (power) "5-V, 100-mA low-dropout linear regulator output. Bypass to (power) GND using a 10-μF ceramic capacitor Runs from VIN supply. Internally connected to VBST and DRVL. Shuts off with EN. Switches over to V5SW when 4.8 V or above (See Datasheet)", 30 DRVL1 (out) "Low-side MOSFET gate driver outputs. Source 1.3 ohm, sink 0.7 ohm, GND referenced driver", 31 VBST1 (power) "Supply inputs for high-side NFET driver (boot strap Terminal). Connect a capacitor (0.1μF or greater is recommended) from this pin to respective SW terminal. Additional SB diode from VREG5 to this pin is an optional.", 32 SW1 (power) "High-side MOSFET gate driver returns.", 33 EP (power) "Connect to the ground."

## TPS51427ARHBR
designator U?
Dual D-CAP™Mode Synchronous Step Down Controller for Notebook Power with OOB Function Disabled, 90 % Duty Cycle, 5.5 to 28 V, -40 to 85 degC, 32-pin QFN (RHB), Green (RoHS & no Sb/Br); Manufacturer: Texas Instruments; PartNumber: TPS51427ARHBR; Duty Cycle(Max)(%): 90; Iout(Max)(A): 20; Regulated Outputs(#): 2; SubFamily: Multiple-Output Switching Controller; Switching Frequency(Max)(kHz): 500; Synchronous Rectification: TRUE; Topology: Buck, D-CAP Mode"; Vin(Max)(V): 28; Vin(Min)(V): 5.5; Vout(Max)(V): 5.9; Vout(Min)(V): 0.7; Vout2(Max)(V): 2.5; Vout2(Min)(V): 0.5; DatasheetVersion: SLUS843B; PackageVersion: revD, Jun-2011; PackageReference: RHB32-3450X3450TP; PackageDescription: 32-Pin Plastic Quad Flat No-Lead, 5 x 5 mm Body, 0.5 mm Pitch, 3.45 x 3.45 mm Exposed Pad; Supplier 1: Digi-Key; Supplier Part Number 1: TPS51427ARHBR-ND; Supplier 2: Newark; Supplier Part Number 2: 03P5194; Supplier 3: Mouser; Supplier Part Number 3: 595-TPS51427ARHBR; Eco-Plan: Green (RoHS & no Sb/Br); Iout2(A): 20; Mounting Technology: Surface Mount; Code_JEDEC: MO-220; ComponentLink1Description: Datasheet; ComponentLink1URL: http://www.ti.com/general/docs/lit/getliterature.tsp?genericPartNumber=TPS51427A&fileType=pdf; ComponentLink2Description: Package Specification; ComponentLink2URL: http://www.ti.com/litv/pdf/mpqf130c
footprint RHB32-3450X3450TP (QFN, 32-Leads, Body 5x5mm, Pitch 0.5mm, Thermal Pad 3.45x3.45mm, TI Recommended)
pins: 1 VREF2 (out) "2-V reference output. Bypass to GND with a 0.1-mF capacitor. VREF2 can source up to 50 mA for external loads.", 2 TONSEL (in) "Frequency select input. Connect to GND for 400-kHz/500-kHz operation. Connect to VREF2 (or leave open) for 400-kHz/300-kHz operation. Connect to V5FILT for 200-kHz/300-kHz operation (5-V/3.3-V SMPS switching frequencies, (See Datasheet)", 3 V5FILT (power) "5-V analog supply input", 4 EN_LDO (in) "LDO Enable Input. The LDO is enabled if EN_LDO is within logic high level and disabled if EN_LDO is less than the logic low level.", 5 VREF3 (out) "3.3-V reference output. VREF3 can source up to 10 mA for external loads. Bypass to GND with a 1-mF capacitor.", 6 VIN (power) "Power supply input .VIN supplies power to the linear regulators. The linear regulators are powered by Channel1 if VOUT1 is set greater than 5 V and VSW is tied to VOUT1.", 7 LDO (power) "Linear regulator output. The LDO regulator can provide a total of 100-mA external loads. The LDO regulates at 5 V If LDOREFIN is connected to GND. When the LDO is set at 5 V and VSW is within a 5-V switchover threshold, the (See Datasheet)", 8 LDOREFIN (in) "LDO Reference Input. Connect LDOREFIN to GND for fixed 5-V operation. Connect LDOREFIN to V5FILT for fixed 3.3-V operation. LDOREFIN can be used to program LDO output voltage from 0.7 V to 4.5 V. LDO output is twice the (See Datasheet)", 9 VSW (power) "VSW is the switchover source voltage for the LDO when LDOREFIN is connected to GND or V5FILT. Connect VSW to 5 V if LDOREFIN is tied GND.Connect VSW to 3.3 V if LDOREFIN is tied to V5FILT.", 10 VOUT1 (in) "Output connections to SMPS. These terminals serve two functions: on-time adjustment and output discharge.", 11 VFB1 (in) "Channel 1 feedback input.Connect VFB1 to GND for fixed 5-V operation.Connect VFB1 to V5FILT for fixed 1.5-V operation.Connect VFB1 to a resistive voltage divider from OUT1 to GND to adjust the output from 0.7 V to 5.9 V.", 12 TRIP1 (in) "Overcurrent trip point set input. Sourcing current is 5 mA at RT with 2900 ppm/degreesC temperature coefficient.", 13 PGOOD1 (hiz) "Channel1/Channel2 power-good open-drain output. PGOOD1/PGOOD2 is low when the Channel1/Channel2 output voltage is 10% less than the normal regulation point, at onset of OVP events, or during soft start. PGOOD1/PGOOD2 is high (See Datasheet)", 14 EN1 (in) "Channel enable pins. If EN1 is connected to VREF2, Channel1 starts after Channel2 reaches regulation (delay start). If EN2 is connected to VREF2, Channel2 starts after Chanel1 reaches regulation.", 15 DRVH1 (out) "High-side N-Channel FET driver ouputs.LL referenced floating drivers. The gate drive voltage is defined by the voltage across VBST to LLnode bootstrap capacitor.", 16 LL1 (power) "Phase node connections for high-side drivers. These connections also serve as inputs to current comparators for RDS(on) sensing and input voltage monitor for on-time control circuitry.", 17 VBST1 (power) "Supply input for high-side MOSFET driver (bootstrap terminal). Connect a capacitor from this pin to the respective LL terminals.", 18 DRVL1 (out) "Synchronous low-side MOSFET driver outputs. Ground referenced drivers. The gate drive voltage is defined by V5DRV voltage.", 19 V5DRV (power) "Supply voltage for the low-side MOSFET driver DRVL1/DRVL2. Connect a 5-V power source to the V5DRV pin (bypass with 4.7-uF MLCC capacitor to PGND if necessary.", 20 NC "No connection.", 21 GND (power) "Analog ground for both channels and LDO.", 22 PGND (power) "Ground pin for drivers and LS synchronous FET source terminals. This pin is also the input to zero crossing comparator and overcurrent comparator.", 23 DRVL2 (out) "Synchronous low-side MOSFET driver outputs. Ground referenced drivers. The gate drive voltage is defined by V5DRV voltage.", 24 VBST2 (power) "Supply input for high-side MOSFET driver (bootstrap terminal). Connect a capacitor from this pin to the respective LL terminals.", 25 LL2 (power) "Phase node connections for high-side drivers. These connections also serve as inputs to current comparators for RDS(on) sensing and input voltage monitor for on-time control circuitry.", 26 DVRH2 (out) "High-side N-Channel FET driver ouputs.LL referenced floating drivers. The gate drive voltage is defined by the voltage across VBST to LLnode bootstrap capacitor.", 27 EN2 (in) "Channel enable pins. If EN1 is connected to VREF2, Channel1 starts after Channel2 reaches regulation (delay start). If EN2 is connected to VREF2, Channel2 starts after Chanel1 reaches regulation.", 28 PGOOD2 (hiz) "Channel1/Channel2 power-good open-drain output. PGOOD1/PGOOD2 is low when the Channel1/Channel2 output voltage is 10% less than the normal regulation point, at onset of OVP events, or during soft start. PGOOD1/PGOOD2 is high (See Datasheet)", 29 SKIPSEL (in) "Low-noise mode control.Connect SKIPSEL to GND for Auto Skip mode operation or to V5FILT for PWM mode (fixed frequency).Connect to VREF2 or leave floating for OOA mode operation.", 30 VOUT2 (in) "Output connections to SMPS. These terminals serve two functions: on-time adjustment and output discharge.", 31 TRIP2 (in) "Overcurrent trip point set input. Sourcing current is 5 mA at RT with 2900 ppm/degreesC temperature coefficient.", 32 REFIN2 (in) "Output voltage control for Channel2.Connect REFIN2 to V5FILT for fixed 3.3-V operation.Connect REFIN2 to VREF3 for fixed 1.05-V operation.REFIN2 can be used to program Channel2 output voltage from 0.5 V to 2.5 V.", 33 EP (power) "Exposed thermal pad."